# Altium footprint library FootPrints_SysArossage.PcbLib: 29 footprints (part 1 of 2)
Each footprint in its own frame and in the unit in brackets; x right, y up, seen from the top. Pads: shape width x height; smd on the part's side, far side on the other; paste and mask are expansions set on the pad; w line width, h text height; cw(c..) or ccw(c..) is an arc to the next point about the centre after c.
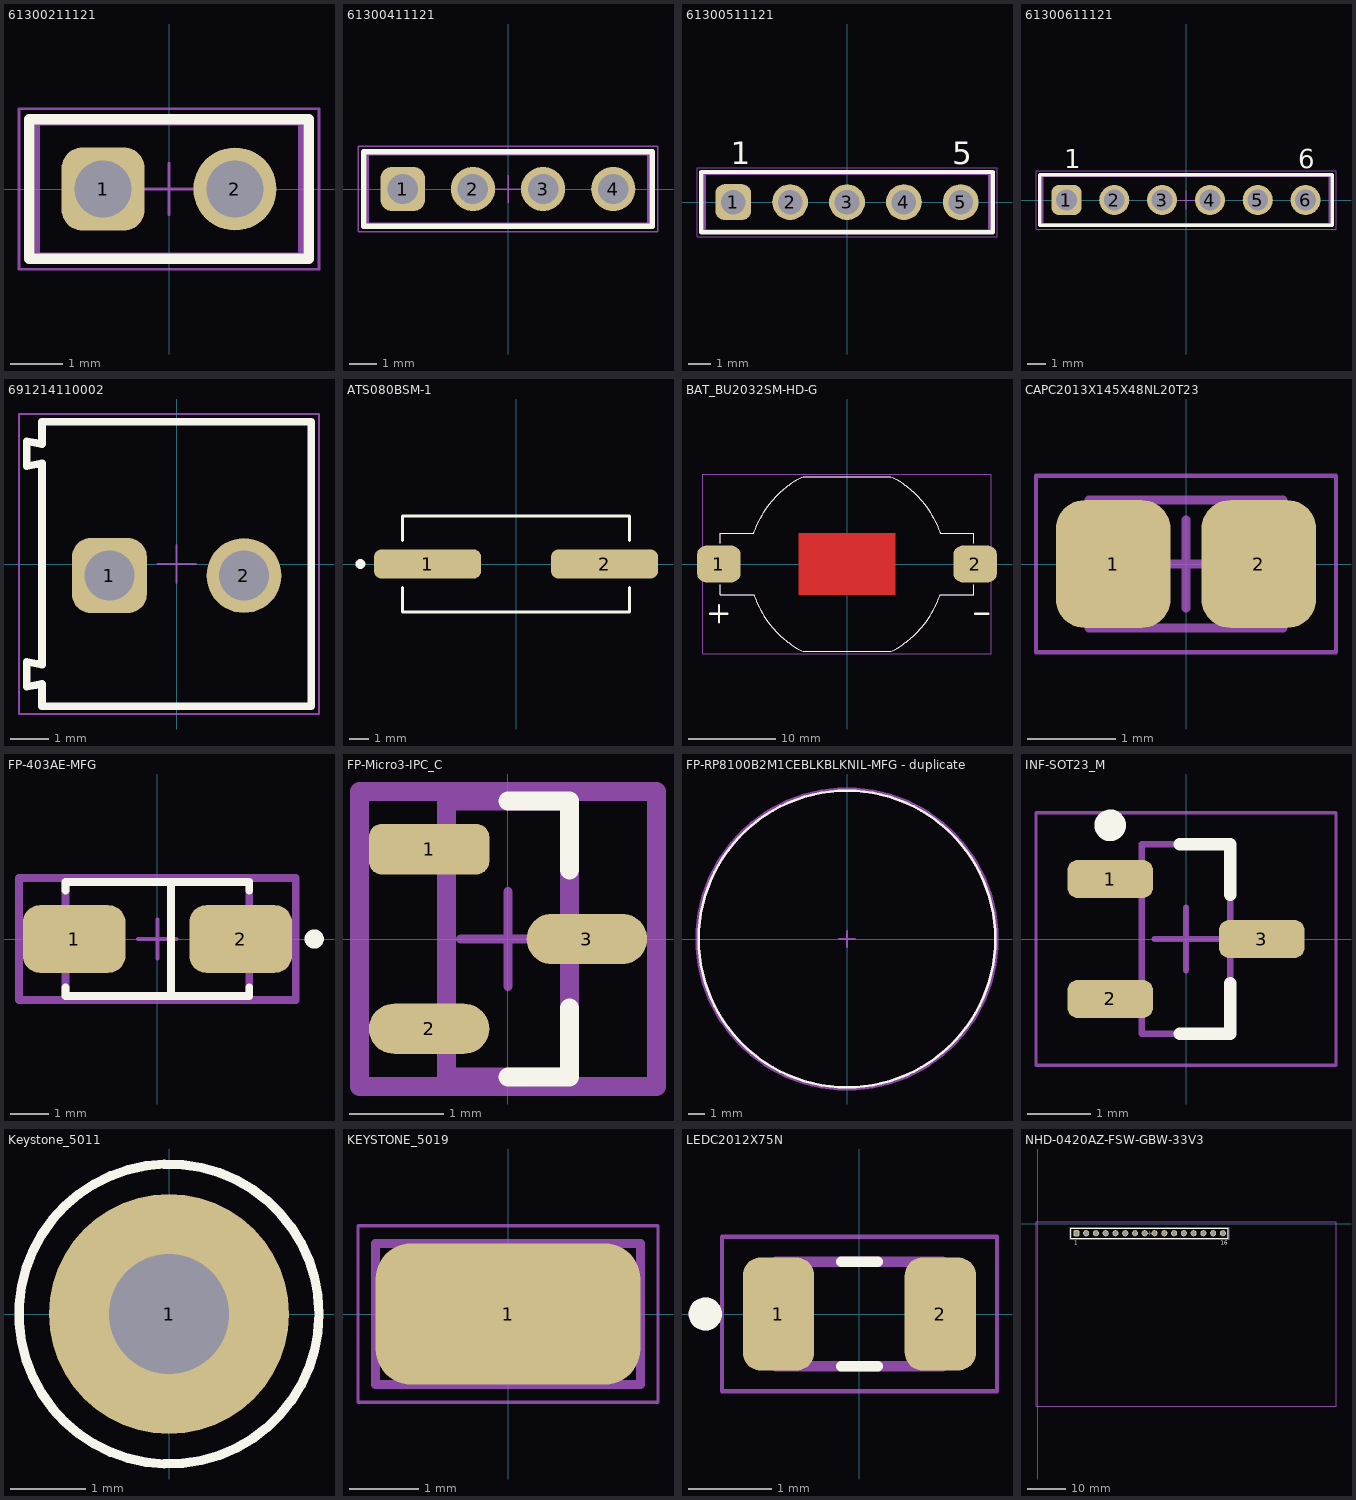
[diagram p0: the footprints below, top view; thin cyan lines are the x and y axes]

## 61300211121 [mm] "Pin Header, pitch 2.54 mm, THT, Vertical, single row, 2p"
height 8.54
pads (2):
  rrect50% 1.6x1.6 hole 1.1: 1(-1.27,0)
  round 1.6 hole 1.1: 2(1.27,0)
Top Overlay:
  lines w0.2: -2.69,-1.345 -2.69,1.345 2.69,1.345 2.69,-1.345 -2.69,-1.345
Top 3D Body:
  lines w0.1: -2.54,-1.27 2.54,-1.27 2.54,1.27 -2.54,1.27 -2.54,-1.27
Top Courtyard:
  lines w0.05: -0.5,0 0.5,0 ; 0,-0.5 0,0.5 ; -2.89,-1.545 2.89,-1.545 2.89,1.545 -2.89,1.545 -2.89,-1.545
Top Component Outline:
  lines w0.1: -2.54,-1.27 2.54,-1.27 2.54,1.27 -2.54,1.27 -2.54,-1.27
3D body "61300211121.stp": height 8.57, standoff -2.97, extent -2.54,-1.27 2.54,1.27

## 61300411121 [mm] "Pin Header, pitch 2.54 mm, THT, Vertical, single row, 4p"
height 8.54
pads (4):
  rrect50% 1.6x1.6 hole 1.1: 1(-3.81,0)
  round 1.6 hole 1.1: 2(-1.27,0) 3(1.27,0) 4(3.81,0)
Top Overlay:
  lines w0.2: -5.23,-1.345 -5.23,1.345 5.23,1.345 5.23,-1.345 -5.23,-1.345
Top 3D Body:
  lines w0.1: -5.08,-1.27 5.08,-1.27 5.08,1.27 -5.08,1.27 -5.08,-1.27
Top Courtyard:
  lines w0.05: -0.5,0 0.5,0 ; 0,-0.5 0,0.5 ; -5.43,-1.545 5.43,-1.545 5.43,1.545 -5.43,1.545 -5.43,-1.545
Top Designator:
  text ".Designator" at -7.498,-0.5 h1.5
Top Component Outline:
  lines w0.1: -5.08,-1.27 5.08,-1.27 5.08,1.27 -5.08,1.27 -5.08,-1.27
3D body "61300411121.stp": height 8.57, standoff -2.97, extent -5.08,-1.27 5.08,1.27

## 61300511121 [mm] "Pin Header, pitch 2.54 mm, THT, Vertical, single row, 5p"
height 8.54
pads (5):
  rrect50% 1.6x1.6 hole 1.1: 1(-5.08,0)
  round 1.6 hole 1.1: 2(-2.54,0) 3(0,0) 4(2.54,0) 5(5.08,0)
Top Overlay:
  lines w0.2: -6.5,-1.345 6.5,-1.345 6.5,1.345 -6.5,1.345 -6.5,-1.345
  text "1" at -5.2,1.7 h1.02
  text "5" at 4.7,1.7 h1.02
Top 3D Body:
  lines w0.1: -6.35,-1.27 -6.35,1.27 6.35,1.27 6.35,-1.27 -6.35,-1.27
Top Courtyard:
  lines w0.05: -0.5,0 0.5,0 ; 0,-0.5 0,0.5 ; -6.7,-1.545 -6.7,1.545 6.7,1.545 6.7,-1.545 -6.7,-1.545
Top Designator:
  text ".Designator" at -7.498,-0.5 h1.5
Top Component Outline:
  lines w0.1: -6.35,-1.27 -6.35,1.27 6.35,1.27 6.35,-1.27 -6.35,-1.27
3D body "61300511121.stp": height 8.57, standoff -2.97, extent -6.35,-1.27 6.35,1.27

## 61300611121 [mm] "Pin Header, pitch 2.54 mm, THT, Vertical, single row, 6p"
height 8.54
pads (6):
  rrect50% 1.6x1.6 hole 1.1: 1(-6.35,0)
  round 1.6 hole 1.1: 2(-3.81,0) 3(-1.27,0) 4(1.27,0) 5(3.81,0) 6(6.35,0)
Top Overlay:
  lines w0.2: -7.77,-1.345 7.77,-1.345 7.77,1.345 -7.77,1.345 -7.77,-1.345
  text "1" at -6.47,1.7 h1.02
  text "6" at 5.97,1.7 h1.02
Top 3D Body:
  lines w0.1: -7.62,-1.27 -7.62,1.27 7.62,1.27 7.62,-1.27 -7.62,-1.27
Top Courtyard:
  lines w0.05: -0.5,0 0.5,0 ; 0,-0.5 0,0.5 ; -7.97,-1.545 -7.97,1.545 7.97,1.545 7.97,-1.545 -7.97,-1.545
Top Designator:
  text ".Designator" at -7.498,-0.5 h1.5
Top Component Outline:
  lines w0.1: -7.62,-1.27 -7.62,1.27 7.62,1.27 7.62,-1.27 -7.62,-1.27
3D body "61300611121.stp": height 8.57, standoff -2.97, extent -7.62,-1.27 7.62,1.27

## 691214110002 [mm] "3.50 mm Horizontal Entry Modular, 2p"
height 8.5
pads (2):
  rrect50% 1.95x1.95 hole 1.3: 1(-1.75,-0.3)
  round 1.95 hole 1.3: 2(1.75,-0.3)
Top Overlay:
  lines w0.2: -3.9,-3.195 -3.5,-3.12 -3.5,-3.7 3.5,-3.7 3.5,3.7 -3.5,3.7 -3.5,3.12 -3.9,3.195 -3.9,2.545 -3.5,2.62 -3.5,-2.62 -3.9,-2.545 -3.9,-3.195
Top 3D Body:
  lines w0.1: -3.9,-3.195 -3.5,-3.12 -3.5,-3.7 3.5,-3.7 3.5,3.7 -3.5,3.7 -3.5,3.12 -3.9,3.195 -3.9,2.545 -3.5,2.62 -3.5,-2.62 -3.9,-2.545 -3.9,-3.195
Top Courtyard:
  lines w0.05: -4.1,-3.9 3.7,-3.9 3.7,3.9 -4.1,3.9 -4.1,-3.9
Top Designator:
  text ".Designator" at -7.498,-0.5 h1.5
Top Component Center:
  lines w0.05: -0.5,0 0.5,0 ; 0,-0.5 0,0.5
Top Component Outline:
  lines w0.1: -3.9,-3.195 -3.9,-2.545 -3.5,-2.62 -3.5,2.62 -3.9,2.545 -3.9,3.195 -3.5,3.12 -3.5,3.7 3.5,3.7 3.5,-3.7 -3.5,-3.7 -3.5,-3.12 -3.9,-3.195
3D body "691214110002.stp": height 8.55, standoff -3.65, extent -3.95,-3.7 3.5,3.7

## ATS080BSM-1 [mm]
pads (2):
  rrect50% 5.5x1.5 smd paste+0 mask+0: 1(-4.547,0) 2(4.547,0)
Top Overlay:
  circle w0.254: c-8,0 r0.125
  lines w0.152: -5.829,-1.2 -5.829,-2.476 5.829,-2.476 5.829,-1.2 ; -5.829,1.2 -5.829,2.476 5.829,2.476 5.829,1.2
Mechanical 13:
  lines w0.025: -6.35,-0.305 -5.702,-0.305 -5.702,0.305 -6.35,0.305 -6.35,-0.305 ; 5.702,-0.305 6.35,-0.305 6.35,0.305 5.702,0.305 5.702,-0.305
3D body "ECS-36-18-5PLX-AGN-TR.STEP": height 3.2, standoff 0, extent -6.6,-2.4 6.6,2.4
3D body: height 0.25, standoff 0, extent 0,0 0.254,0.254

## BAT_BU2032SM-HD-G [mm]
pads (2):
  rrect50% 5x4.2 smd: 1(-14.65,0) 2(14.65,0)
Top Layer:
  region: 5.5,-3.5 -5.5,-3.5 -5.5,3.5 5.5,3.5
Top Overlay:
  lines w0.127: -14.5,-2.4 -14.5,-3.5 -10.645,-3.5 -10.581,-3.681 -10.458,-4.024 -10.35,-4.287 -10.242,-4.538 -10.058,-4.937 -9.88,-5.282 -9.7,-5.594 -9.524,-5.892 -9.168,-6.436 -8.897,-6.809 -8.516,-7.277 -8.022,-7.82 -7.774,-8.061 -7.55,-8.273 -7.354,-8.447 -7.193,-8.586 -7,-8.746 -6.779,-8.919 -6.628,-9.03 -6.375,-9.211 -6.049,-9.433 -5.741,-9.619 -5.497,-9.758 -5.166,-9.939 -5.013,-10 ; -14.5,2.4 -14.5,3.5 -10.645,3.5 -10.581,3.681 -10.458,4.024 -10.35,4.287 -10.242,4.538 -10.058,4.937 -9.88,5.282 -9.7,5.594 -9.524,5.892 -9.168,6.436 -8.897,6.809 -8.516,7.277 -8.022,7.82 -7.774,8.061 -7.55,8.273 -7.354,8.447 -7.193,8.586 -7,8.746 -6.779,8.919 -6.628,9.03 -6.375,9.211 -6.049,9.433 -5.741,9.619 -5.497,9.758 -5.166,9.939 -5.013,10 ; -5,-10 5,-10 ; -5,10 5,10 ; 5.013,-10 5.166,-9.939 5.497,-9.758 5.741,-9.619 6.049,-9.433 6.375,-9.211 6.628,-9.03 6.779,-8.919 7,-8.746 7.193,-8.586 7.354,-8.447 7.55,-8.273 7.774,-8.061 8.022,-7.82 8.516,-7.277 8.897,-6.809 9.168,-6.436 9.524,-5.892 9.7,-5.594 9.88,-5.282 10.058,-4.937 10.242,-4.538 10.35,-4.287 10.458,-4.024 10.581,-3.681 10.645,-3.5 14.5,-3.5 14.5,-2.4 ; 5.013,10 5.166,9.939 5.497,9.758 5.741,9.619 6.049,9.433 6.375,9.211 6.628,9.03 6.779,8.919 7,8.746 7.193,8.586 7.354,8.447 7.55,8.273 7.774,8.061 8.022,7.82 8.516,7.277 8.897,6.809 9.168,6.436 9.524,5.892 9.7,5.594 9.88,5.282 10.058,4.937 10.242,4.538 10.35,4.287 10.458,4.024 10.581,3.681 10.645,3.5 14.5,3.5 14.5,2.4
  lines w0.254: -15.65,-5.7 -13.65,-5.7 ; -14.65,-6.7 -14.65,-4.7 ; 14.65,-5.7 16.15,-5.7
Top Solder:
  region: 5.6,-3.6 -5.6,-3.6 -5.6,3.6 5.6,3.6
Mechanical 13:
  lines w0.127: -14.5,-2.4 -14.5,-3.5 -10.645,-3.5 -10.581,-3.681 -10.458,-4.024 -10.35,-4.287 -10.242,-4.538 -10.058,-4.937 -9.88,-5.282 -9.7,-5.594 -9.524,-5.892 -9.168,-6.436 -8.897,-6.809 -8.516,-7.277 -8.022,-7.82 -7.774,-8.061 -7.55,-8.273 -7.354,-8.447 -7.193,-8.586 -7,-8.746 -6.779,-8.919 -6.628,-9.03 -6.375,-9.211 -6.049,-9.433 -5.741,-9.619 -5.497,-9.758 -5.166,-9.939 -5.013,-10 ; -14.5,2.4 -14.5,3.5 -10.645,3.5 -10.581,3.681 -10.458,4.024 -10.35,4.287 -10.242,4.538 -10.058,4.937 -9.88,5.282 -9.7,5.594 -9.524,5.892 -9.168,6.436 -8.897,6.809 -8.516,7.277 -8.022,7.82 -7.774,8.061 -7.55,8.273 -7.354,8.447 -7.193,8.586 -7,8.746 -6.779,8.919 -6.628,9.03 -6.375,9.211 -6.049,9.433 -5.741,9.619 -5.497,9.758 -5.166,9.939 -5.013,10 ; -5,-10 5,-10 ; -5,10 5,10 ; 5.013,-10 5.166,-9.939 5.497,-9.758 5.741,-9.619 6.049,-9.433 6.375,-9.211 6.628,-9.03 6.779,-8.919 7,-8.746 7.193,-8.586 7.354,-8.447 7.55,-8.273 7.774,-8.061 8.022,-7.82 8.516,-7.277 8.897,-6.809 9.168,-6.436 9.524,-5.892 9.7,-5.594 9.88,-5.282 10.058,-4.937 10.242,-4.538 10.35,-4.287 10.458,-4.024 10.581,-3.681 10.645,-3.5 14.5,-3.5 14.5,-2.4 ; 5.013,10 5.166,9.939 5.497,9.758 5.741,9.619 6.049,9.433 6.375,9.211 6.628,9.03 6.779,8.919 7,8.746 7.193,8.586 7.354,8.447 7.55,8.273 7.774,8.061 8.022,7.82 8.516,7.277 8.897,6.809 9.168,6.436 9.524,5.892 9.7,5.594 9.88,5.282 10.058,4.937 10.242,4.538 10.35,4.287 10.458,4.024 10.581,3.681 10.645,3.5 14.5,3.5 14.5,2.4
Mechanical 15:
  lines w0.05: -16.5,-10.25 16.5,-10.25 16.5,10.25 -16.5,10.25 -16.5,-10.25
3D body "BU2032SM-HD-G.step": height 5.3, standoff 0, extent -16,-10 16,10

## CAPC2013X145X48NL20T23 [mm] "Chip Capacitor, 2-Leads, Body 2.00x1.25mm, IPC Medium Density"
height 1.45
pads (2):
  rrect50% 1.3x1.45 smd: 1(-0.825,0) 2(0.825,0)
Mechanical 13:
  lines w0.1: -1.1,-0.725 -1.1,0.725 1.1,0.725 1.1,-0.725 -1.1,-0.725
Mechanical 15:
  lines w0.05: -1.7,-1 -1.7,1 1.7,1 1.7,-1 -1.7,-1
  lines w0.1: -0.5,0 0.5,0 ; 0,-0.5 0,0.5
3D body: height 1.45, standoff 0, extent -0.62,-0.725 0.62,0.725
3D body: height 1.45, standoff 0, extent -1.1,-0.725 -0.62,0.725
3D body: height 1.45, standoff 0, extent 0.62,-0.725 1.1,0.725

## FP-403AE-MFG [mm]
pads (2):
  rrect50% 2.65x1.75 smd paste+0 mask+0: 1(-2.15,0) 2(2.15,0)
Top Overlay:
  circle w0.25: c4.05,0 r0.125
  lines w0.2: -2.375,-1.25 -2.375,-1.475 2.375,-1.475 2.375,-1.25 ; -2.375,1.25 -2.375,1.475 2.375,1.475 2.375,1.25 ; 0.35,-1.4 0.35,1.4
Top 3D Body:
  lines w0.2: -2.375,-1.475 2.375,-1.475 2.375,1.475 -2.375,1.475 -2.375,-1.475
Top Courtyard:
  lines w0.2: -3.575,-1.575 3.575,-1.575 3.575,1.575 -3.575,1.575 -3.575,-1.575
Top Assembly:
  lines w0.2: -3.575,-1.575 3.575,-1.575 3.575,1.575 -3.575,1.575 -3.575,-1.575
  text ".Designator" at 0,-0.001 h1
Top Component Center:
  lines w0.1: -0.5,0 0.5,0 ; 0,-0.5 0,0.5
3D body "Diode_ON_Semiconductor_SS14_eec.STEP": height 0.25, standoff 0, extent -3.575,-1.575 3.575,1.575

## FP-Micro3-IPC_C [mm]
pads (3):
  rrect50% 1.274x0.532 smd paste+0 mask+0: 1(-0.835,0.95)
  rrect100% 1.274x0.532 smd paste+0 mask+0: 2(-0.835,-0.95) 3(0.835,0)
Top Overlay:
  lines w0.2: 0,-1.46 0.65,-1.46 0.65,-0.73 ; 0,1.46 0.65,1.46 0.65,0.73
Top 3D Body:
  lines w0.2: -0.65,-1.46 0.65,-1.46 0.65,1.46 -0.65,1.46 -0.65,-1.46
Top Courtyard:
  lines w0.2: -1.572,-1.56 1.572,-1.56 1.572,1.56 -1.572,1.56 -1.572,-1.56
Top Assembly:
  lines w0.2: -1.572,-1.56 1.572,-1.56 1.572,1.56 -1.572,1.56 -1.572,-1.56
  text ".Designator" at 0,-0.001 h1
Top Component Center:
  lines w0.1: -0.5,0 0.5,0 ; 0,-0.5 0,0.5
3D body "Trans_Infineon_IRLML2030TRPBF_eec.STEP": height 0.25, standoff 0, extent -1.572,-1.56 1.572,1.56

## FP-RP8100B2M1CEBLKBLKNIL-MFG - duplicate [mm]
Top Overlay:
  circle w0.15: c0,0 r8.875
Top 3D Body:
  circle w0.15: c0,0 r8.875
Top Courtyard:
  lines w0.2: -8.975,0 ccw(c0,0) 8.975,0 ccw(c0,0) -8.975,0
Top Assembly:
  text ".Designator" at 0,0.188 h1
Top Component Center:
  lines w0.1: -0.5,0 0.5,0 ; 0,-0.5 0,0.5
3D body "Switch_E-Switch_RP8100B2M1CEBLKBLKNIL_eec.STEP": height 0.25, standoff 0, extent -8.975,-8.975 8.975,8.975

## INF-SOT23_M [mm] "SOT23, 3-Leads, Body 2.9x1.3 mm, Pitch 0.95 mm, IPC Low Density"
height 1.1
pads (3):
  rrect50% 1.35x0.6 smd: 1(-1.2,0.95) 2(-1.2,-0.95) 3(1.2,0)
Top Overlay:
  circle w0.25: c-1.2,1.8 r0.125
  lines w0.2: -0.1,-1.5 0.7,-1.5 0.7,-0.7 ; -0.1,1.5 0.7,1.5 0.7,0.7
Mechanical 13:
  lines w0.1: -0.7,-1.5 0.7,-1.5 0.7,1.5 -0.7,1.5 -0.7,-1.5
Mechanical 15:
  lines w0.05: -2.375,-2 2.375,-2 2.375,2 -2.375,2 -2.375,-2
  lines w0.1: -0.5,0 0.5,0 ; 0,-0.5 0,0.5
3D body "SOT23-3.step": height 1.1, standoff 0, extent -1.25,-1.5 1.25,1.5

## Keystone_5011 [mm]
pads (1):
  round 3.2 hole 1.6 paste-100: 1(0,0)
Top Overlay:
  circle w0.125: c0,0 r2
Top Assembly:
  text ".Comment" at 1.75,-0.75 h1.2
3D body "TP-Keystone-BLK-5011.stp": height 8.13, standoff -3.1, extent -1.587,-1.587 1.588,1.588

## KEYSTONE_5019 [mm]
height 2.29
pads (1):
  rrect50% 3.8x2.03 smd: 1(0,0)
Mechanical 13:
  lines w0.127: -1.905,-1.015 1.905,-1.015 1.905,1.015 -1.905,1.015 -1.905,-1.015
Mechanical 15:
  lines w0.05: -2.155,-1.265 2.155,-1.265 2.155,1.265 -2.155,1.265 -2.155,-1.265
3D body "step_temp.STEP": height 2.29, standoff 0, extent -1.905,-1.015 1.905,1.015

## LEDC2012X75N [mm]
pads (2):
  rrect50% 0.86x1.36 smd: 1(-0.975,0) 2(0.975,0)
Top Overlay:
  circle w0.2: c-1.856,0 r0.1
  lines w0.127: -0.22,-0.63 0.22,-0.63 ; -0.22,0.63 0.22,0.63
Mechanical 13:
  circle w0.2: c-1.856,0 r0.1
  lines w0.127: -1,-0.63 1,-0.63 1,0.63 -1,0.63 -1,-0.63
Mechanical 15:
  lines w0.05: -1.656,-0.931 1.656,-0.931 1.656,0.931 -1.656,0.931 -1.656,-0.931
3D body "APT2012SECK_J3-PRV.STEP": height 0.75, standoff 0, extent -1,-0.625 1,0.625

## NHD-0420AZ-FSW-GBW-33V3 [mm]
pads (16):
  rrect50% 1.6x1.6 hole 1.1: 1(10,-2.5)
  round 1.6 hole 1.1: 2(12.54,-2.5) 3(15.08,-2.5) 4(17.62,-2.5) 5(20.16,-2.5) 6(22.7,-2.5) 7(25.24,-2.5) 8(27.78,-2.5) 9(30.32,-2.5) 10(32.86,-2.5) 11(35.4,-2.5) 12(37.94,-2.5) 13(40.48,-2.5) 14(43.02,-2.5) 15(45.56,-2.5) 16(48.1,-2.5)
Top Overlay:
  lines w0.2: 8.58,-3.845 49.52,-3.845 49.52,-1.155 8.58,-1.155 8.58,-3.845
  text "1" at 9.5,-5.5 h1.02
  text "16" at 47.5,-5.5 h1.02
Top 3D Body:
  lines w0.1: 8.73,-3.77 8.73,-1.23 49.37,-1.23 49.37,-3.77 8.73,-3.77
Top Courtyard:
  lines w0.05: 28.55,-2.5 29.55,-2.5 ; 29.05,-3 29.05,-2 ; 8.38,-4.045 8.38,-0.955 49.72,-0.955 49.72,-4.045 8.38,-4.045
Top Designator:
  text ".Designator" at 21.552,-3 h1.5
Top Component Outline:
  lines w0.1: 8.73,-3.77 8.73,-1.23 49.37,-1.23 49.37,-3.77 8.73,-3.77
  lines w0.254: -0.5,-47.5 77.5,-47.5 77.5,0.5 -0.5,0.5 -0.5,-47.5
3D body "61301611121.stp": height 8.57, standoff -2.97, extent 8.73,-3.77 49.37,-1.23